# Altium schematic symbol library LMR51610XDBVR.SchLib: 1 symbol
Pins are listed as number, name and electrical type; pins without a type are passive.

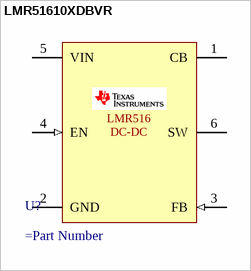
[diagram p0: symbol LMR51610XDBVR]

## LMR51610XDBVR
designator U?
=Description
pins: 1 CB, 2 GND (power), 3 FB (in), 4 EN (in), 5 VIN (power), 6 SW (power)
text: LMR516 / DC-DC